# EAGLE library part 4025BP (library EW_IC_74_Logic)
3-input Nor gate. Category: Gates Manufacturer: Generic
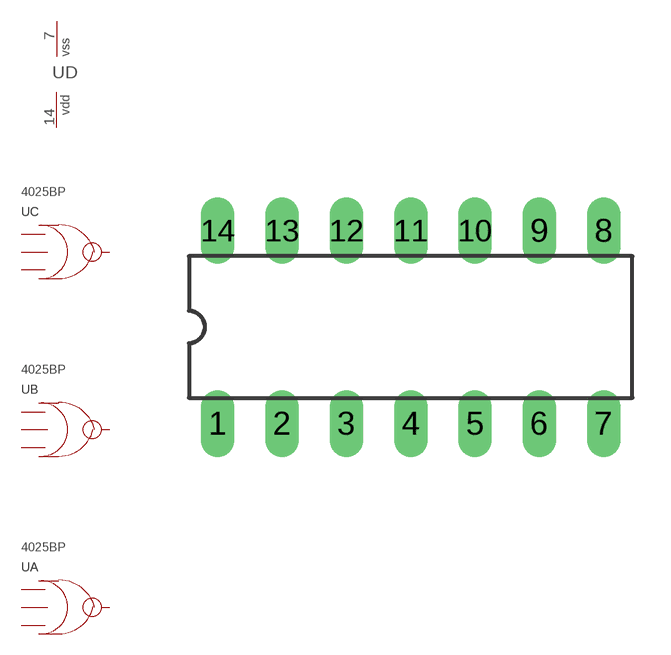
[diagram p90: symbol with the pads of DIL14; footprint DIL14]

Designator prefix U; gates A=NOR_3 B=NOR_3 C=NOR_3 D=PWRN_1

## 4025BP  [DIL14]
1  B:A  pwr
2  B:B  pwr
3  A:A  pwr
4  A:B  pwr
5  A:C  pwr
6  A:Y  pwr
7  D:VSS  pwr
8  B:C  pwr
9  B:Y  pwr
10  C:Y  pwr
11  C:A  pwr
12  C:B  pwr
13  C:C  pwr
14  D:VDD  pwr

## Footprint DIL14 (pad centres in mm)
SOCKET Dual In Line
drill 0.813 long: 1 -7.62,-3.81; 2 -5.08,-3.81; 3 -2.54,-3.81; 4 0,-3.81; 5 2.54,-3.81; 6 5.08,-3.81; 7 7.62,-3.81; 8 7.62,3.81; 9 5.08,3.81; 10 2.54,3.81; 11 0,3.81; 12 -2.54,3.81; 13 -5.08,3.81; 14 -7.62,3.81